# Altium footprint library SM04B-SRSS-TB.PcbLib: 1 footprints
Each footprint in its own frame and in the unit in brackets; x right, y up, seen from the top. Pads: shape width x height; smd on the part's side, far side on the other; paste and mask are expansions set on the pad; w line width, h text height; cw(c..) or ccw(c..) is an arc to the next point about the centre after c.
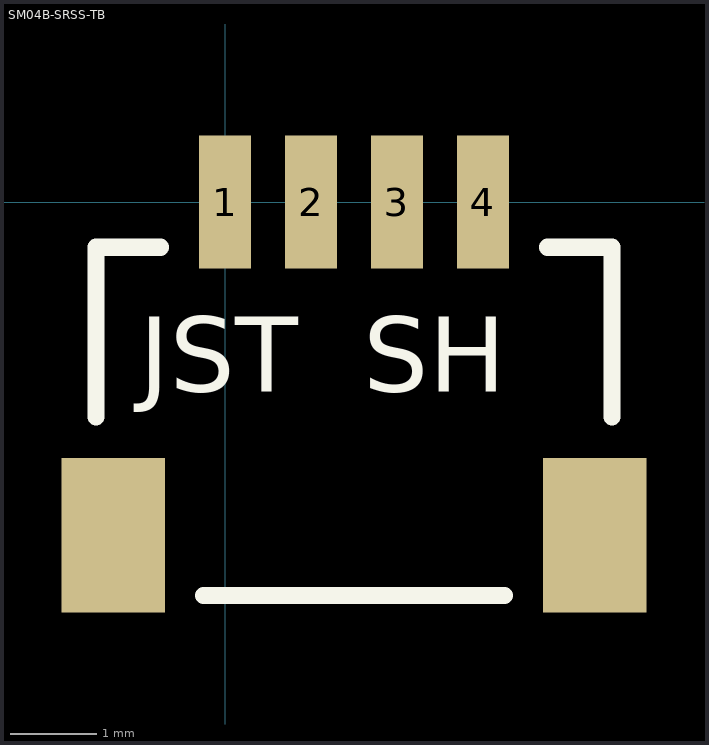
[diagram p0: the footprint, top view; thin cyan lines are the x and y axes]

## SM04B-SRSS-TB [mm] "JST (JAPAN SOLDERLESS TERMINALS) - SM04B-SRSS-TB - HEADER, SH, 4WAY, SIDE, 1MM, TIN"
height 2.9
pads (6):
  rect 0.6x1.55 smd: 1(0,0) 2(1,0) 3(2,0) 4(3,0)
  rect 1.2x1.8 smd: ""(-1.3,-3.875) ""(4.3,-3.875)
Top Overlay:
  lines w0.2: -1.5,-2.5 -1.5,-0.525 -0.75,-0.525 ; -0.25,-4.575 3.25,-4.575 ; 3.75,-0.525 4.5,-0.525 4.5,-2.5
  text "JST  SH" at -1,-2.5 h1.5
3D body: height 3, standoff 0, extent -1.5,-4.43 4.5,0.52